# Altium schematic symbol library Buck.SCHLIB: 12 symbols
Pins are listed as number, name and electrical type; pins without a type are passive.

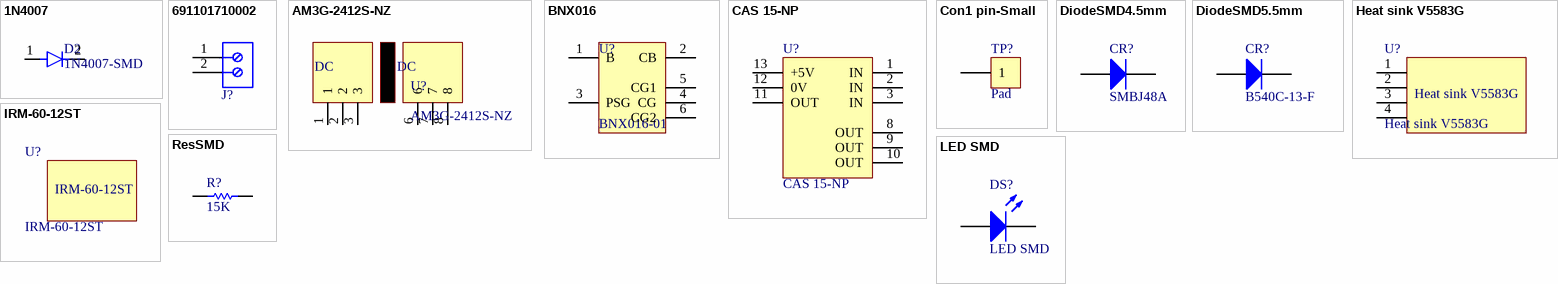
[diagram p0: symbols 1N4007 to ResSMD]

## 1N4007
designator D2, comment 1N4007-SMD
Diode Standard 1000V 1A Through Hole DO-204AL _DO-41_; MF: ON Semiconductor; MP: 1N4007; Package: DO-41 Good-Ark; Value: *; Price: None; Availability: Unavailable; SnapEDA_Link: https://www.snapeda.com/parts/1N4007/ON%20Semiconductor/view-part/2816213/?ref=snap
footprint SMA (DO-214AC)
pins: 1 A, 2 C

## 691101710002
designator J?  (value not drawn)
WR-TBL Series 101 Horizontal Entry Modular, THT, pitch 5mm, 2p; Manufacturer: Wurth Elektronik; Modularity: Yes; Rated Current: 16A; Working Voltage: 250V; ComponentLink1Description: Website Link; ComponentLink1URL: https://www.we-online.com/redexpert/article/691101710002?ad; ComponentLink2Description: Datasheet Link; ComponentLink2URL: https://www.we-online.com/redexpert/spec/691101710002?ad; Manufacturer Part Number: 691101710002; Category: Terminal Blocks; Match Code: WR-TBL; Mount: Through Hole; Operating Temperature Max: 105°C; Operating Temperature Min: -40°C; Packaging: Box; Application: Pressure Clamp; Number of Pins: 2; Number of Rows: 1; Orientation: Horizontal; Pitch: 5mm
footprint 691101710002
pins: 1, 2

## AM3G-2412S-NZ
designator U?
footprint AM3G-2412S-NZ
pins: 1, 2, 3, 6, 7, 8
text: DC

## BNX016
designator U?, comment BNX016-01
footprint BNX016
pins: 1 B, 2 CB, 3 PSG, 4 CG, 5 hidden, 5 CG1, 6 hidden, 6 CG2

## CAS 15-NP
designator U?
Current Transducer, 5 V, -40 to 85 degC, 10-Pin THD, RoHS, Tray; Manufacturer: LEM; PartNumber: LTSR 15-NP; IP: 250 At; IPN: 15 At; G: 41.6 mV/A; VC: 5 V; CL: 500 pF Max.; Mounting Technology: Through Hole; ComponentLink1URL: http://www.lem.com/; ComponentLink3Description: Package Specification; DatasheetVersion: Feb-11; Packing: Tray; PackageDescription: 10-Pin THD, Body 22.2 x 9.3 mm, Height 24 mm; ComponentLink1Description: Manufacturer URL; ComponentLink3URL: http://www.lem.com/docs/products/ltsr%2015-np.pdf; Operating Temperature Range: -40 to 85 degC; ComponentLink2Description: Datasheet; ComponentLink2URL: http://www.lem.com/docs/products/ltsr%2015-np.pdf
footprint CAS 15-NP
pins: 1 IN, 2 IN, 3 IN, 8 OUT, 9 OUT, 10 OUT, 11 OUT, 12 0V, 13 +5V

## Con1 pin-Small
designator TP?, comment Pad
footprint TP-0.5mm
pins: 1

## DiodeSMD4.5mm
designator CR?, comment SMBJ48A
footprint SMB (DO-214AA)
pins: 1 A, 2 K

## DiodeSMD5.5mm
designator CR?, comment B540C-13-F
footprint SMC (DO-214AB) (SMC-DIODE)
pins: A, K

## Heat sink V5583G
designator U?
footprint Buck_heatsink
pins: 1, 2, 3, 4, 5 hidden, 6 hidden

## IRM-60-12ST
designator U?
footprint IRM-60-12ST
pins: 5 hidden, 6 hidden

## LED SMD
designator DS?
footprint LED0805 (LED-0805)
pins: 1 A, 2 K

## ResSMD
designator R?, comment 15K
footprint R0805 (0805)
pins: 1, 2